# EAGLE library part CON_01X06 (library mfconnectors)
Library: MF_Connectors Description: Header Connector with 6 Positions and 01 Rows. Use the LABEL Attribute to label the pin on the schematic and PCB. You can remove the attributes on the PCB by using the SMASH function on the part and then deleting the text.
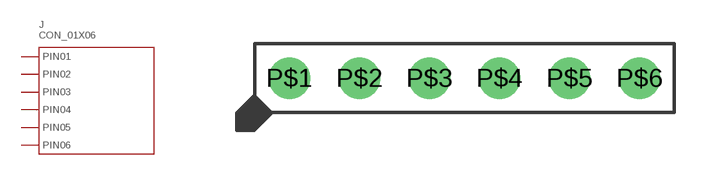
[diagram p3: symbol with the pads of PTH_2.54MM_01X06; footprint PTH_2.54MM_01X06]

Designator prefix J

## CON_01X06_PTH_2.54MM (HOUSEPART: YES; MPN: MF-CON-2.54mm-01x06; POPULATE: 1; URL: https://factory.macrofab.com/part/MF-CON-2.54mm-01x06; VALUE: MF-CON-2.54mm-01x06)  [PTH_2.54MM_01X06]
P$1  PIN1
P$2  PIN2
P$3  PIN3
P$4  PIN4
P$5  PIN5
P$6  PIN6

## Footprint PTH_2.54MM_01X06 (pad centres in mm)
Description: Package for 2.54MM Pitch Header 6 Position. Based on 4UCON 00834.
drill 1: P$1 -6.35,0; P$2 -3.81,0; P$3 -1.27,0; P$4 1.27,0; P$5 3.81,0; P$6 6.35,0